# Altium schematic symbol library 691 243 410 0xx.SchLib: 8 symbols
Pins are listed as number, name and electrical type; pins without a type are passive.

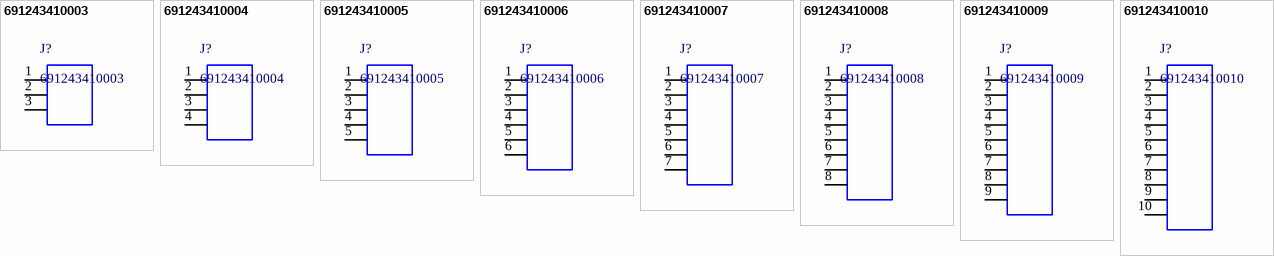
[diagram p0: symbols 691243410003 to 691243410010]

## 691243410003
designator J?
WR-TBL Vertical Cable Entry With Rising Cage Clamp,Serie 2434 - 7.62 mm; Manufacturer: Wurth Elektronik; ComponentLink1 Description: Manufacturer; ComponentLink2 Description: Datasheet; ComponentLink1URL: http://www.we-online.de; ComponentLink2URL: http://katalog.we-online.de/em/datasheet/6912434100xx.pdf; Created by: Baojun Chen; Created Date: 12.Sep.2015; partNo: 691243410003
footprint 691243410003 (Serie 2434 - 7.62 mm _ 3 pins)
pins: 1, 2, 3

## 691243410004
designator J?
WR-TBL Vertical Cable Entry With Rising Cage Clamp,Serie 2434 - 7.62 mm; Manufacturer: Wurth Elektronik; ComponentLink1 Description: Manufacturer; ComponentLink2 Description: Datasheet; ComponentLink1URL: http://www.we-online.de; ComponentLink2URL: http://katalog.we-online.de/em/datasheet/6912434100xx.pdf; Created by: Baojun Chen; Created Date: 12.Sep.2015; partNo: 691243410004
footprint 691243410004 (Serie 2434 - 7.62 mm _ 4 pins)
pins: 1, 2, 3, 4

## 691243410005
designator J?
WR-TBL Vertical Cable Entry With Rising Cage Clamp,Serie 2434 - 7.62 mm; Manufacturer: Wurth Elektronik; ComponentLink1 Description: Manufacturer; ComponentLink2 Description: Datasheet; ComponentLink1URL: http://www.we-online.de; ComponentLink2URL: http://katalog.we-online.de/em/datasheet/6912434100xx.pdf; Created by: Baojun Chen; Created Date: 12.Sep.2015; partNo: 691243410005
footprint 691243410005 (Serie 2434 - 7.62 mm _ 5 pins)
pins: 1, 2, 3, 4, 5

## 691243410006
designator J?
WR-TBL Vertical Cable Entry With Rising Cage Clamp,Serie 2434 - 7.62 mm; Manufacturer: Wurth Elektronik; ComponentLink1 Description: Manufacturer; ComponentLink2 Description: Datasheet; ComponentLink1URL: http://www.we-online.de; ComponentLink2URL: http://katalog.we-online.de/em/datasheet/6912434100xx.pdf; Created by: Baojun Chen; Created Date: 12.Sep.2015; partNo: 691243410006
footprint 691243410006 (Serie 2434 - 7.62 mm _ 6 pins)
pins: 1, 2, 3, 4, 5, 6

## 691243410007
designator J?
WR-TBL Vertical Cable Entry With Rising Cage Clamp,Serie 2434 - 7.62 mm; Manufacturer: Wurth Elektronik; ComponentLink1 Description: Manufacturer; ComponentLink2 Description: Datasheet; ComponentLink1URL: http://www.we-online.de; ComponentLink2URL: http://katalog.we-online.de/em/datasheet/6912434100xx.pdf; Created by: Baojun Chen; Created Date: 12.Sep.2015; partNo: 691243410007
footprint 691243410007 (Serie 2434 - 7.62 mm _ 7 pins)
pins: 1, 2, 3, 4, 5, 6, 7

## 691243410008
designator J?
WR-TBL Vertical Cable Entry With Rising Cage Clamp,Serie 2434 - 7.62 mm; Manufacturer: Wurth Elektronik; ComponentLink1 Description: Manufacturer; ComponentLink2 Description: Datasheet; ComponentLink1URL: http://www.we-online.de; ComponentLink2URL: http://katalog.we-online.de/em/datasheet/6912434100xx.pdf; Created by: Baojun Chen; Created Date: 12.Sep.2015; partNo: 691243410008
footprint 691243410008 (Serie 2434 - 7.62 mm _ 8 pins)
pins: 1, 2, 3, 4, 5, 6, 7, 8

## 691243410009
designator J?
WR-TBL Vertical Cable Entry With Rising Cage Clamp,Serie 2434 - 7.62 mm; Manufacturer: Wurth Elektronik; ComponentLink1 Description: Manufacturer; ComponentLink2 Description: Datasheet; ComponentLink1URL: http://www.we-online.de; ComponentLink2URL: http://katalog.we-online.de/em/datasheet/6912434100xx.pdf; Created by: Baojun Chen; Created Date: 12.Sep.2015; partNo: 691243410009
footprint 691243410009 (Serie 2434 - 7.62 mm _ 9 pins)
pins: 1, 2, 3, 4, 5, 6, 7, 8, 9

## 691243410010
designator J?
WR-TBL Vertical Cable Entry With Rising Cage Clamp,Serie 2434 - 7.62 mm; Manufacturer: Wurth Elektronik; ComponentLink1 Description: Manufacturer; ComponentLink2 Description: Datasheet; ComponentLink1URL: http://www.we-online.de; ComponentLink2URL: http://katalog.we-online.de/em/datasheet/6912434100xx.pdf; Created by: Baojun Chen; Created Date: 12.Sep.2015; partNo: 691243410010
footprint 691243410010 (Serie 2434 - 7.62 mm _ 10 pins)
pins: 1, 2, 3, 4, 5, 6, 7, 8, 9, 10